# EAGLE library part HARTING_15120202601333 (library harting-flex)
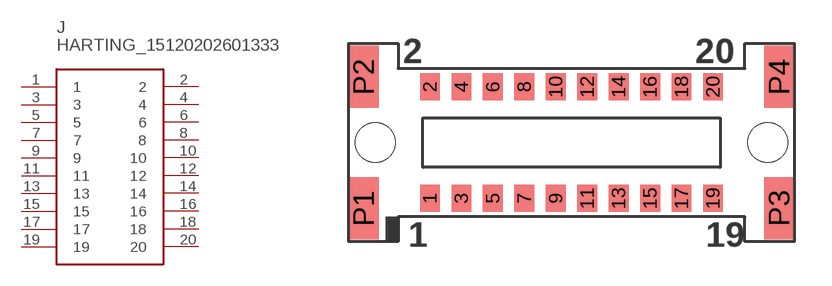
[diagram p0: symbol with the pads of HARTING_15120202601333; footprint HARTING_15120202601333]

Designator prefix J

## HARTING_15120202601333  [HARTING_15120202601333]
1  1
2  2
3  3
4  4
5  5
6  6
7  7
8  8
9  9
10  10
11  11
12  12
13  13
14  14
15  15
16  16
17  17
18  18
19  19
20  20

## Footprint HARTING_15120202601333 (pad centres in mm)
smd 0.8 x 1.1: 1 -5.715,-2.25; 2 -5.715,2.25; 3 -4.445,-2.25; 4 -4.445,2.25; 5 -3.175,-2.25; 6 -3.175,2.25; 7 -1.905,-2.25; 8 -1.905,2.25; 9 -0.635,-2.25; 10 -0.635,2.25; 11 0.635,-2.25; 12 0.635,2.25; 13 1.905,-2.25; 14 1.905,2.25; 15 3.175,-2.25; 16 3.175,2.25; 17 4.445,-2.25; 18 4.445,2.25; 19 5.715,-2.25; 20 5.715,2.25
smd 1.2 x 2.5: P1 -8.39,-2.65; P2 -8.39,2.65; P3 8.39,-2.65; P4 8.39,2.65
hole 1.6 at -7.925,0
hole 1.6 at 7.925,0